# Altium schematic symbol library ZM47 Family.SchLib: 3 symbols
Pins are listed as number, name and electrical type; pins without a type are passive.

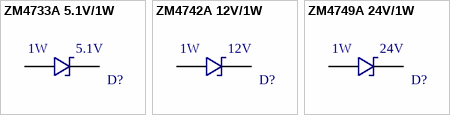
[diagram p0: symbols ZM4733A 5.1V/1W to ZM4749A 24V/1W]

## ZM4733A 5.1V/1W
designator D?, comment Voltage: 5.1V  Power: 1W  (hidden comment: ZM4733A 5.1V/1W - DO-213AB)
Zener Diode 5.1V 1W ±5% Surface Mount DO-213AB; Manufacturer 1: Vishay Semiconductor Diodes Division; Manufacturer 1 PN: ZM4749A-GS08; ComponentLink1Description: Datasheet; ComponentLink1URL: http://www.vishay.com/docs/85786/zm4728a.pdf; Digikey PN: ZM4749A-GS08CT-ND
footprint ZM4733A 5.1V/1W - DO-213AB (Zener Diode 5.1V 1W ±5% Surface Mount DO-213AB)
pins: A, K

## ZM4742A 12V/1W
designator D?, comment Voltage: 12V  Power: 1W  (hidden comment: ZM4742A 12V/1W - DO-213AB)
Zener Diode 12V 1W ±5% Surface Mount DO-213AB; Manufacturer 1: Vishay Semiconductor Diodes Division; Manufacturer 1 PN: ZM4742A-GS08; ComponentLink1Description: Datasheet; ComponentLink1URL: http://www.vishay.com/docs/85786/zm4728a.pdf; Digikey PN: ZM4742A-GS08CT-ND
footprint ZM4742A 12V/1W - DO-213AB (Zener Diode 12V 1W ±5% Surface Mount DO-213AB)
pins: A, K

## ZM4749A 24V/1W
designator D?, comment Voltage: 24V  Power: 1W  (hidden comment: ZM4749A 24V/1W - DO-213AB)
Zener Diode 24V 1W ±5% Surface Mount DO-213AB; Manufacturer 1: Vishay Semiconductor Diodes Division; Manufacturer 1 PN: ZM4749A-GS08; ComponentLink1Description: Datasheet; ComponentLink1URL: http://www.vishay.com/docs/85786/zm4728a.pdf; Digikey PN: ZM4749A-GS08CT-ND
footprint ZM4749A 24V/1W - DO-213AB (Zener Diode 24V 1W ±5% Surface Mount DO-213AB)
pins: A, K